# Altium schematic symbol library Schlib1_TEKNOFEST.SchLib: 19 symbols
Pins are listed as number, name and electrical type; pins without a type are passive.

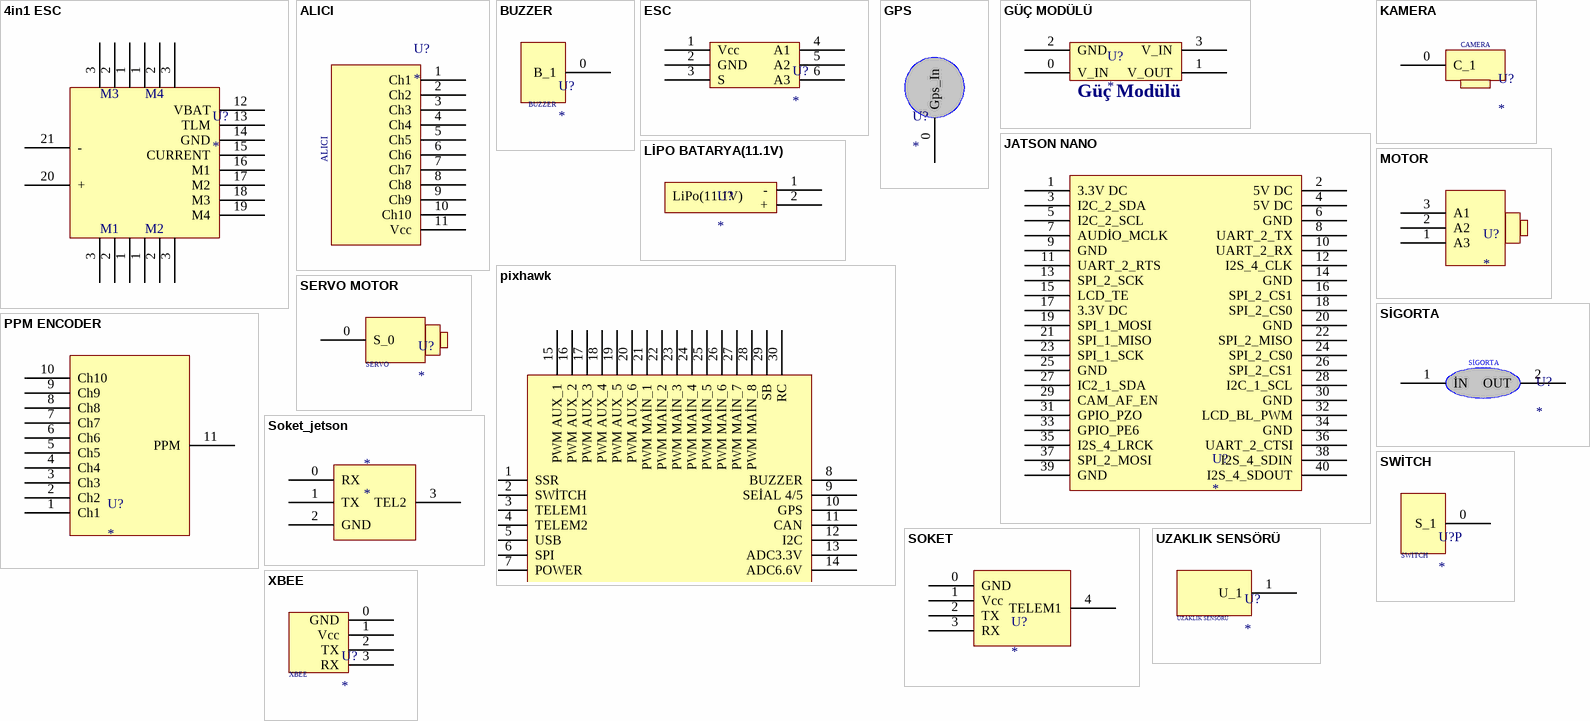
[diagram p0: symbols 4in1 ESC to XBEE]

## 4in1 ESC
designator U?
pins: 1, 1, 1, 1, 2, 2, 2, 2, 3, 3, 3, 3, 12 VBAT, 13 TLM, 14 GND, 15 CURRENT, 16 M1, 17 M2, 18 M3, 19 M4, 20 +, 21 -

## ALICI
designator U?
pins: 1 Ch1, 2 Ch2, 3 Ch3, 4 Ch4, 5 Ch5, 6 Ch6, 7 Ch7, 8 Ch8, 9 Ch9, 10 Ch10, 11 Vcc

## BUZZER
designator U?
pins: 0 B_1

## ESC
designator U?
pins: 1 Vcc, 2 GND, 3 S, 4 A1, 5 A2, 6 A3

## GPS
designator U?
pins: 0 Gps_In

## GÜÇ MODÜLÜ
designator U?
pins: 0 V_IN, 1 V_OUT, 2 GND, 3 V_IN
text: Güç Modülü

## JATSON NANO
designator U?
pins: 1 3.3V DC, 2 5V DC, 3 I2C_2_SDA, 4 5V DC, 5 I2C_2_SCL, 6 GND, 7 AUDİO_MCLK, 8 UART_2_TX, 9 GND, 10 UART_2_RX, 11 UART_2_RTS, 12 I2S_4_CLK, 13 SPI_2_SCK, 14 GND, 15 LCD_TE, 16 SPI_2_CS1, 17 3.3V DC, 18 SPI_2_CS0, 19 SPI_1_MOSI, 20 GND, 21 SPI_1_MISO, 22 SPI_2_MISO, 23 SPI_1_SCK, 24 SPI_2_CS0, 25 GND, 26 SPI_2_CS1, 27 IC2_1_SDA, 28 I2C_1_SCL, 29 CAM_AF_EN, 30 GND, 31 GPIO_PZO, 32 LCD_BL_PWM, 33 GPIO_PE6, 34 GND, 35 I2S_4_LRCK, 36 UART_2_CTSI, 37 SPI_2_MOSI, 38 I2S_4_SDIN, 39 GND, 40 I2S_4_SDOUT

## KAMERA
designator U?
pins: 0 C_1
text: CAMERA

## LİPO BATARYA(11.1V)
designator U?
pins: 1 -, 2 +
text: LiPo(11.1V)

## MOTOR
designator U?
pins: 1 A3, 2 A2, 3 A1

## pixhawk
designator U?
pins: 1 SSR, 2 SWİTCH, 3 TELEM1, 4 TELEM2, 5 USB, 6 SPI, 7 POWER, 8 BUZZER, 9 SEİAL 4/5, 10 GPS, 11 CAN, 12 I2C, 13 ADC3.3V, 14 ADC6.6V, 15 PWM AUX_1, 16 PWM AUX_2, 17 PWM AUX_3, 18 PWM AUX_4, 19 PWM AUX_5, 20 PWM AUX_6, 21 PWM MAİN_1, 22 PWM MAİN_2, 23 PWM MAİN_3, 24 PWM MAİN_4, 25 PWM MAİN_5, 26 PWM MAİN_6, 27 PWM MAİN_7, 28 PWM MAİN_8, 29 SB, 30 RC

## PPM ENCODER
designator U?
pins: 1 Ch1, 2 Ch2, 3 Ch3, 4 Ch4, 5 Ch5, 6 Ch6, 7 Ch7, 8 Ch8, 9 Ch9, 10 Ch10, 11 PPM

## SERVO MOTOR
designator U?
pins: 0 S_0
text: SERVO

## SİGORTA
designator U?
pins: 1 İN, 2 OUT

## SOKET
designator U?
pins: 0 GND, 1 Vcc, 2 TX, 3 RX, 4 TELEM1

## Soket_jetson
designator *
pins: 0 RX, 1 TX, 2 GND, 3 TEL2

## SWİTCH
designator U?P
pins: 0 S_1

## UZAKLIK SENSÖRÜ
designator U?
pins: 1 U_1

## XBEE
designator U?
pins: 0 GND, 1 Vcc, 2 TX, 3 RX